# EAGLE library part INA3221 (library RRIK)
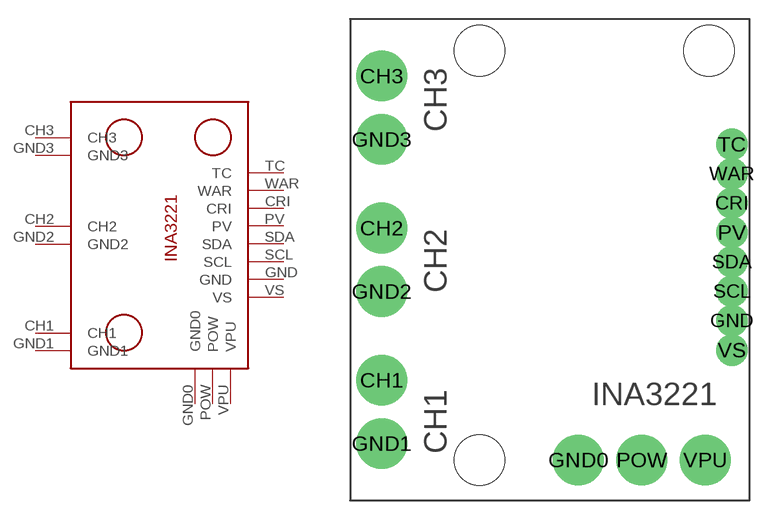
[diagram p5: symbol with the pads of INA3221; footprint INA3221]

Designator prefix -

## INA3221  [INA3221]
CH1  CH1  pwr
CH2  CH2  pwr
CH3  CH3  pwr
CRI  CRI
GND  GND
GND0  GND0
GND1  GND1
GND2  GND2
GND3  GND3
POW  POW  pwr
PV  PV
SCL  SCL
SDA  SDA
TC  TC
VPU  VPU  pwr
VS  VS
WAR  WAR

## Footprint INA3221 (pad centres in mm)
drill 2 pad 4: CH1 2.5,-28.5; CH2 2.5,-16.5; CH3 2.5,-4.5; GND0 18,-34.8; GND1 2.5,-33.5; GND2 2.5,-21.5; GND3 2.5,-9.5; POW 23,-34.8; VPU 28,-34.8
drill 1.65 pad 1.75: CRI 30.105,-14.525; GND 30.105,-23.805; PV 30.105,-16.845; SCL 30.105,-21.485; SDA 30.105,-19.165; TC 30.105,-9.885; VS 30.105,-26.125; WAR 30.105,-12.205
hole 4 at 10.2,-2.5
hole 4 at 10.2,-34.8
hole 4 at 28.3,-2.5